# EAGLE library part MOLEX_90130_2X03 (library df4iah_connector)
Header 2X3 2.54mm Molex 90130 series
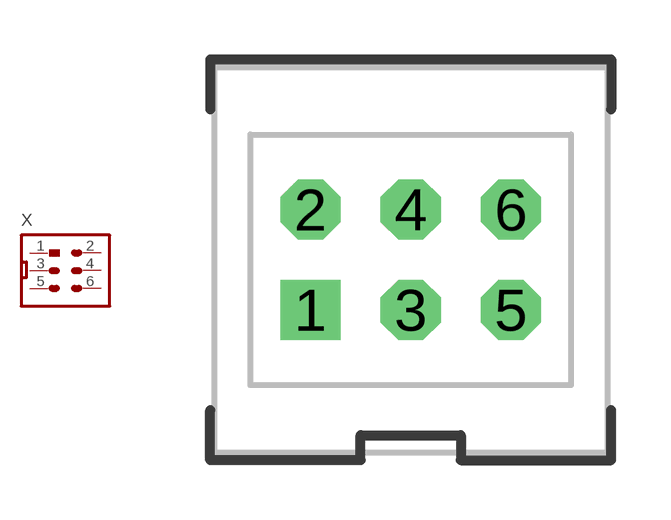
[diagram p14: symbol with the pads of MOLEX_90130_2X03; footprint MOLEX_90130_2X03]

Designator prefix X

## MOLEX_90130_2X03  [MOLEX_90130_2X03]
1  1  pas
2  2  pas
3  3  pas
4  4  pas
5  5  pas
6  6  pas

## Footprint MOLEX_90130_2X03 (pad centres in mm)
Header 2X3 2.54mm Molex 90130 series
drill 1.016 square: 1 -2.54,-1.27
drill 1.016 octagon: 2 -2.54,1.27; 3 0,-1.27; 4 0,1.27; 5 2.54,-1.27; 6 2.54,1.27